# Altium schematic symbol library STM8S208RBT6.SchLib: 1 symbol
Pins are listed as number, name and electrical type; pins without a type are passive.

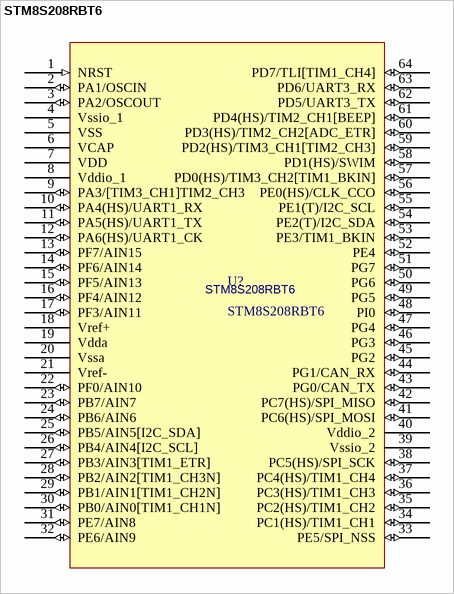
[diagram p0: symbol STM8S208RBT6]

## STM8S208RBT6
designator U?
pins: 1 NRST (in), 2 PA1/OSCIN (io), 3 PA2/OSCOUT (io), 4 Vssio_1 (power), 5 VSS (power), 6 VCAP (power), 7 VDD (power), 8 Vddio_1 (power), 9 PA3/[TIM3_CH1]TIM2_CH3 (io), 10 PA4(HS)/UART1_RX (io), 11 PA5(HS)/UART1_TX (io), 12 PA6(HS)/UART1_CK (io), 13 PF7/AIN15 (io), 14 PF6/AIN14 (io), 15 PF5/AIN13 (io), 16 PF4/AIN12 (io), 17 PF3/AIN11 (io), 18 Vref+ (power), 19 Vdda (power), 20 Vssa (power), 21 Vref- (power), 22 PF0/AIN10 (io), 23 PB7/AIN7 (io), 24 PB6/AIN6 (io), 25 PB5/AIN5[I2C_SDA] (io), 26 PB4/AIN4[I2C_SCL] (io), 27 PB3/AIN3[TIM1_ETR] (io), 28 PB2/AIN2[TIM1_CH3N] (io), 29 PB1/AIN1[TIM1_CH2N] (io), 30 PB0/AIN0[TIM1_CH1N] (io), 31 PE7/AIN8 (io), 32 PE6/AIN9 (io), 33 PE5/SPI_NSS (io), 34 PC1(HS)/TIM1_CH1 (io), 35 PC2(HS)/TIM1_CH2 (io), 36 PC3(HS)/TIM1_CH3 (io), 37 PC4(HS)/TIM1_CH4 (io), 38 PC5(HS)/SPI_SCK (io), 39 Vssio_2 (power), 40 Vddio_2 (power), 41 PC6(HS)/SPI_MOSI (io), 42 PC7(HS)/SPI_MISO (io), 43 PG0/CAN_TX (io), 44 PG1/CAN_RX (io), 45 PG2 (io), 46 PG3 (io), 47 PG4 (io), 48 PI0 (io), 49 PG5 (io), 50 PG6 (io), 51 PG7 (io), 52 PE4 (io), 53 PE3/TIM1_BKIN (io), 54 PE2(T)/I2C_SDA (io), 55 PE1(T)/I2C_SCL (io), 56 PE0(HS)/CLK_CCO (io), 57 PD0(HS)/TIM3_CH2[TIM1_BKIN] (io), 58 PD1(HS)/SWIM (io), 59 PD2(HS)/TIM3_CH1[TIM2_CH3] (io), 60 PD3(HS)/TIM2_CH2[ADC_ETR] (io), 61 PD4(HS)/TIM2_CH1[BEEP] (io), 62 PD5/UART3_TX (io), 63 PD6/UART3_RX (io), 64 PD7/TLI[TIM1_CH4] (io)